# EAGLE library part ATMEGA48/88/168/328-PU(DIP28) (library voicemod_parts)
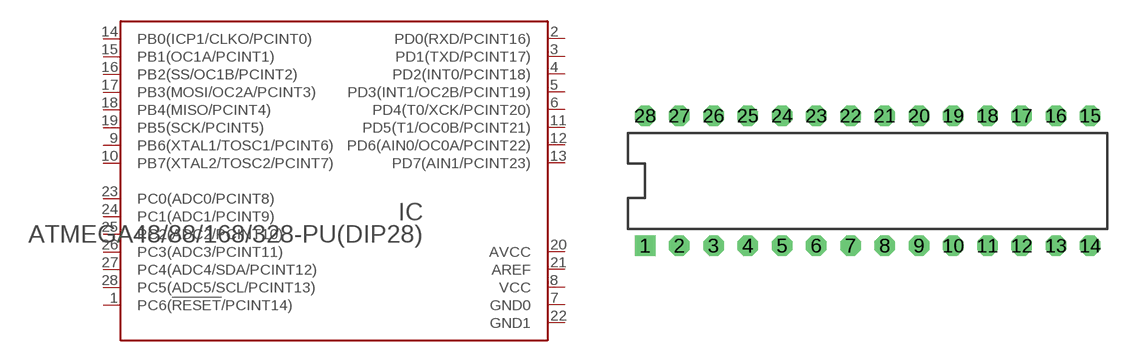
[diagram p0: symbol with the pads of DIL28; footprint DIL28]

Designator prefix IC

## ATMEGA48/88/168/328-PU(DIP28)PU  [DIL28]
1  PC6(!RESET!/PCINT14)
2  PD0(RXD/PCINT16)
3  PD1(TXD/PCINT17)
4  PD2(INT0/PCINT18)
5  PD3(INT1/OC2B/PCINT19)
6  PD4(T0/XCK/PCINT20)
7  GND0  pwr
8  VCC  pwr
9  PB6(XTAL1/TOSC1/PCINT6)
10  PB7(XTAL2/TOSC2/PCINT7)
11  PD5(T1/OC0B/PCINT21)
12  PD6(AIN0/OC0A/PCINT22)
13  PD7(AIN1/PCINT23)
14  PB0(ICP1/CLKO/PCINT0)
15  PB1(OC1A/PCINT1)
16  PB2(SS/OC1B/PCINT2)
17  PB3(MOSI/OC2A/PCINT3)
18  PB4(MISO/PCINT4)
19  PB5(SCK/PCINT5)
20  AVCC  pwr
21  AREF  pas
22  GND1  pwr
23  PC0(ADC0/PCINT8)
24  PC1(ADC1/PCINT9)
25  PC2(ADC2/PCINT10)
26  PC3(ADC3/PCINT11)
27  PC4(ADC4/SDA/PCINT12)
28  PC5(ADC5/SCL/PCINT13)

## Footprint DIL28 (pad centres in mm)
drill 0.889 pad 1.524 square: 1 -16.51,-4.572
drill 0.889 pad 1.524 octagon: 2 -13.97,-4.572; 3 -11.43,-4.572; 4 -8.89,-4.572; 5 -6.35,-4.572; 6 -3.81,-4.572; 7 -1.27,-4.572; 8 1.27,-4.572; 9 3.81,-4.572; 10 6.35,-4.572; 11 8.89,-4.572; 12 11.43,-4.572; 13 13.97,-4.572; 14 16.51,-4.572; 15 16.51,5.08; 16 13.97,5.08; 17 11.43,5.08; 18 8.89,5.08; 19 6.35,5.08; 20 3.81,5.08; 21 1.27,5.08; 22 -1.27,5.08; 23 -3.81,5.08; 24 -6.35,5.08; 25 -8.89,5.08; 26 -11.43,5.08; 27 -13.97,5.08; 28 -16.51,5.08